# EAGLE library part VENUS838LPX-L (library U-Venus-Venus838LPxL-GPS-Module)
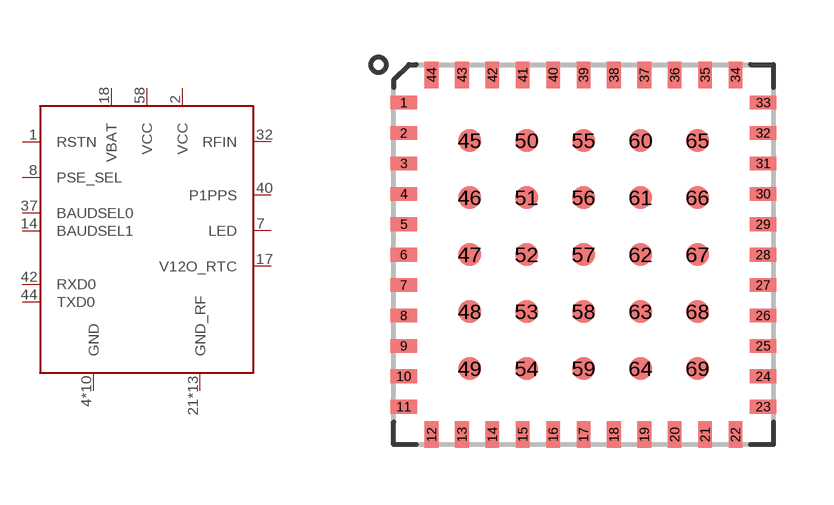
[diagram p0: symbol with the pads of VENUS838LPX; footprint VENUS838LPX]

Designator prefix -

## VENUS838LPX-L  [VENUS838LPX]
1  RSTN  in
2  VCC  pwr
4  GND  pwr
5  GND  pwr
6  GND  pwr
7  LED  out
8  PSE_SEL  in
10  GND  pwr
11  GND  pwr
14  BAUDSEL1  in
15  GND  pwr
17  V12O_RTC  out
18  VBAT  pwr
19  GND  pwr
21  GND_RF  pwr
22  GND_RF  pwr
24  GND_RF  pwr
25  GND_RF  pwr
27  GND_RF  pwr
28  GND_RF  pwr
29  GND_RF  pwr
31  GND_RF  pwr
32  RFIN  in
33  GND_RF  pwr
37  BAUDSEL0  in
40  P1PPS  out
42  RXD0  in
44  TXD0  out
49  GND  pwr
58  VCC  pwr
60  GND  pwr
61  GND_RF  pwr
62  GND_RF  pwr
64  GND  pwr
65  GND_RF  pwr
69  GND_RF  pwr

## Footprint VENUS838LPX (pad centres in mm)
smd 0.7 x 0.36: 1 -4.73,4; 2 -4.73,3.2; 3 -4.73,2.4; 4 -4.73,1.6; 5 -4.73,0.8; 6 -4.73,0; 7 -4.73,-0.8; 8 -4.73,-1.6; 9 -4.73,-2.4; 10 -4.73,-3.2; 11 -4.73,-4; 23 4.73,-4; 24 4.73,-3.2; 25 4.73,-2.4; 26 4.73,-1.6; 27 4.73,-0.8; 28 4.73,0; 29 4.73,0.8; 30 4.73,1.6; 31 4.73,2.4; 32 4.73,3.2; 33 4.73,4
smd 0.36 x 0.7: 12 -4,-4.73; 13 -3.2,-4.73; 14 -2.4,-4.73; 15 -1.6,-4.73; 16 -0.8,-4.73; 17 0,-4.73; 18 0.8,-4.73; 19 1.6,-4.73; 20 2.4,-4.73; 21 3.2,-4.73; 22 4,-4.73; 34 4,4.73; 35 3.2,4.73; 36 2.4,4.73; 37 1.6,4.73; 38 0.8,4.73; 39 0,4.73; 40 -0.8,4.73; 41 -1.6,4.73; 42 -2.4,4.73; 43 -3.2,4.73; 44 -4,4.73
smd 0.6 x 0.6: 45 -3,3; 46 -3,1.5; 47 -3,0; 48 -3,-1.5; 49 -3,-3; 50 -1.5,3; 51 -1.5,1.5; 52 -1.5,0; 53 -1.5,-1.5; 54 -1.5,-3; 55 0,3; 56 0,1.5; 57 0,0; 58 0,-1.5; 59 0,-3; 60 1.5,3; 61 1.5,1.5; 62 1.5,0; 63 1.5,-1.5; 64 1.5,-3; 65 3,3; 66 3,1.5; 67 3,0; 68 3,-1.5; 69 3,-3